# Altium schematic symbol library DRV8825.SchLib: 3 symbols
Pins are listed as number, name and electrical type; pins without a type are passive.

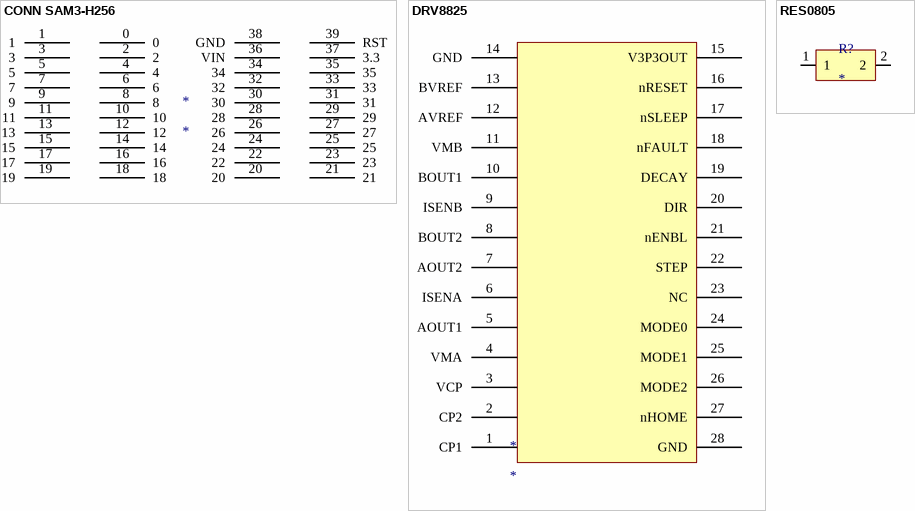
[diagram p0: symbols CONN SAM3-H256 to RES0805]

## CONN SAM3-H256
designator *
footprint DIP20
pins: 0, 1, 2, 3, 4, 5, 6, 7, 8, 9, 10, 11, 12, 13, 14, 15, 16, 17, 18, 19, 20, 21, 22, 23, 24, 25, 26, 27, 28, 29, 30, 31, 32, 33, 34, 35, 36 VIN, 37 3.3, 38 GND, 39 RST

## DRV8825
designator *
footprint DRV8825 (TI Stepper Motor Driver, replacement for the Pololu A4988 (mainly) 3D-printer stepper driver modules.)
pins: 1 CP1, 2 CP2, 3 VCP, 4 VMA, 5 AOUT1, 6 ISENA, 7 AOUT2, 8 BOUT2, 9 ISENB, 10 BOUT1, 11 VMB, 12 AVREF, 13 BVREF, 14 GND, 15 V3P3OUT, 16 nRESET, 17 nSLEEP, 18 nFAULT, 19 DECAY, 20 DIR, 21 nENBL, 22 STEP, 23 NC, 24 MODE0, 25 MODE1, 26 MODE2, 27 nHOME, 28 GND

## RES0805
designator R?
footprint Resistor
pins: 1, 2